# EAGLE library part LCD_MODULE (library OpenMotics)
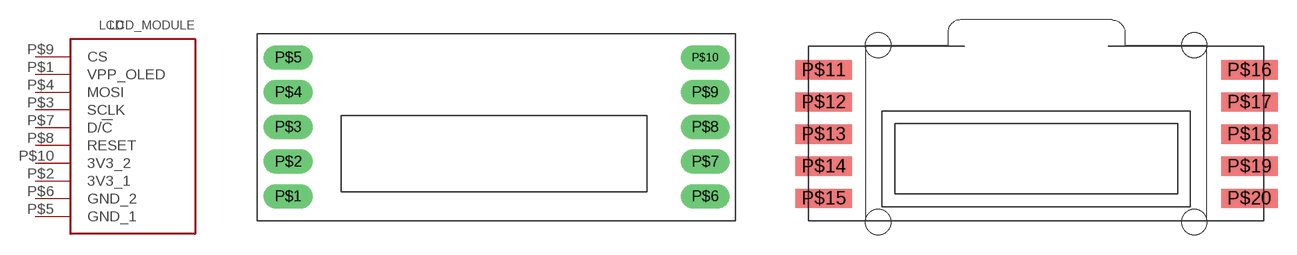
[diagram p5: symbol with the pads of LCD_MODULE; footprints LCD_MODULE, LCD_MODULE_BOTTOM]

Designator prefix LCD

## LCD_MODULETH  [LCD_MODULE]
P$1  VPP_OLED
P$2  3V3_1
P$3  SCLK
P$4  MOSI
P$5  GND_1
P$6  GND_2
P$7  D/!C!
P$8  RESET
P$9  CS
P$10  3V3_2

## LCD_MODULE  [LCD_MODULE_BOTTOM]
P$11  GND_1
P$12  CS
P$13  RESET
P$14  D/!C!
P$15  3V3_1
P$16  GND_2
P$17  MOSI
P$18  SCLK
P$19  3V3_2
P$20  VPP_OLED

## Footprint LCD_MODULE (pad centres in mm)
drill 1.2 long: P$1 -15.044,-3.122; P$2 -15.044,-0.582; P$3 -15.044,1.958; P$4 -15.044,4.498; P$5 -15.044,7.038; P$6 15.436,-3.122; P$7 15.436,-0.582; P$8 15.436,1.958; P$9 15.436,4.498; P$10 15.436,7.038

## Footprint LCD_MODULE_BOTTOM (pad centres in mm)
smd 4.445 x 1.524: P$11 -16.802,7.038; P$12 -16.802,4.498; P$13 -16.802,1.958; P$14 -16.802,-0.582; P$15 -16.802,-3.122; P$16 16.854,7.038; P$17 16.854,4.498; P$18 16.854,1.958; P$19 16.854,-0.582; P$20 16.854,-3.122
hole 2 at -12.5,9
hole 2 at 12.5,9
hole 2 at 12.5,-5
hole 2 at -12.5,-5